# EAGLE library part ADAFRUIT-KB2040_KB2040 (library Ocreeb 12)
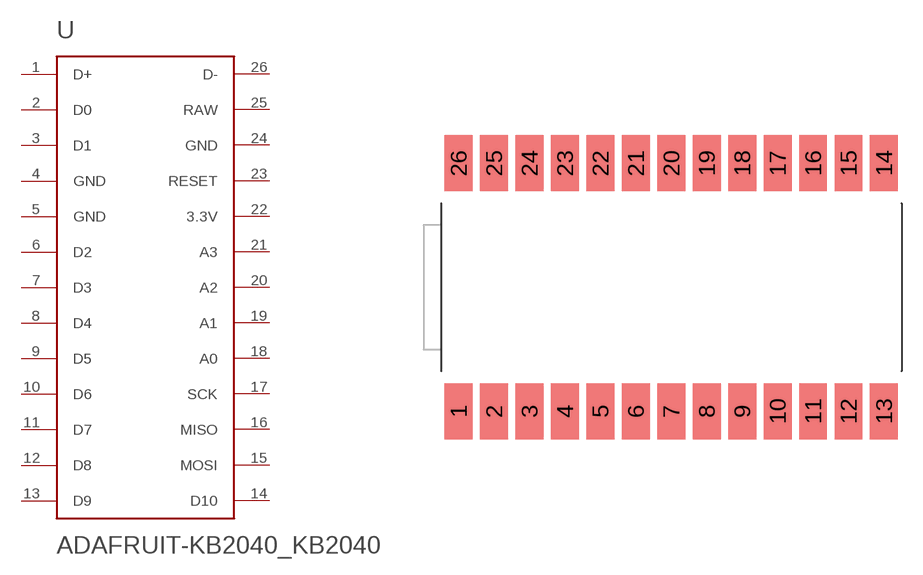
[diagram p0: symbol with the pads of ADAFRUIT-KB2040_KB2040_SMD; footprint ADAFRUIT-KB2040_KB2040_SMD]

Designator prefix -

## ADAFRUIT-KB2040_KB2040  [ADAFRUIT-KB2040_KB2040_SMD]
1  D+
2  D0
3  D1
4  GND
5  GND
6  D2
7  D3
8  D4
9  D5
10  D6
11  D7
12  D8
13  D9
14  D10
15  MOSI
16  MISO
17  SCK
18  A0
19  A1
20  A2
21  A3
22  3.3V
23  RESET
24  GND
25  RAW
26  D-

## Footprint ADAFRUIT-KB2040_KB2040_SMD (pad centres in mm)
SMD Land pattern for the KB2040 from Adafruit
smd 2 x 4: 1 -15.24,-8.89; 2 -12.7,-8.89; 3 -10.16,-8.89; 4 -7.62,-8.89; 5 -5.08,-8.89; 6 -2.54,-8.89; 7 0,-8.89; 8 2.54,-8.89; 9 5.08,-8.89; 10 7.62,-8.89; 11 10.16,-8.89; 12 12.7,-8.89; 13 15.24,-8.89; 14 15.24,8.89; 15 12.7,8.89; 16 10.16,8.89; 17 7.62,8.89; 18 5.08,8.89; 19 2.54,8.89; 20 0,8.89; 21 -2.54,8.89; 22 -5.08,8.89; 23 -7.62,8.89; 24 -10.16,8.89; 25 -12.7,8.89; 26 -15.24,8.89